# Altium schematic symbol library cube8.SchLib: 8 symbols
Pins are listed as number, name and electrical type; pins without a type are passive.

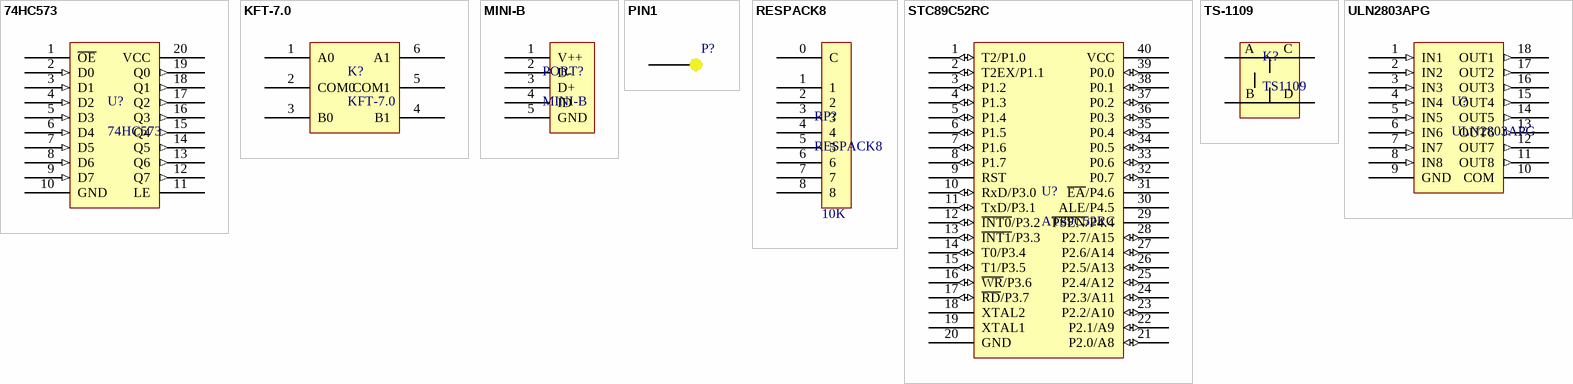
[diagram p0: symbols 74HC573 to ULN2803APG]

## 74HC573
designator U?
footprint DIP20
pins: 1 ~{OE}, 2 D0 (in), 3 D1 (in), 4 D2 (in), 5 D3 (in), 6 D4 (in), 7 D5 (in), 8 D6 (in), 9 D7 (in), 10 GND, 11 LE, 12 Q7 (out), 13 Q6 (out), 14 Q5 (out), 15 Q4 (out), 16 Q3 (out), 17 Q2 (out), 18 Q1 (out), 19 Q0 (out), 20 VCC (power)

## KFT-7.0
designator K?
footprint KFT-7.0
pins: 1 A0, 2 COM0, 3 B0, 4 B1, 5 COM1, 6 A1

## MINI-B
designator PORT?
footprint MINI-B
pins: 1 V++, 2 D-, 3 D+, 4 ID, 5 GND

## PIN1
designator P?, comment PIN  (value not drawn)
footprint PIN1
pins: 0 P

## RESPACK8
designator RP?  value 10K
footprint SIP9
pins: 0 C, 1, 2, 3, 4, 5, 6, 7, 8

## STC89C52RC
designator U?, comment AT89C52RC
footprint DIP40
pins: 1 T2/P1.0 (io), 2 T2EX/P1.1 (io), 3 P1.2 (io), 4 P1.3 (io), 5 P1.4 (io), 6 P1.5 (io), 7 P1.6 (io), 8 P1.7 (io), 9 RST, 10 RxD/P3.0 (io), 11 TxD/P3.1 (io), 12 ~{INT0}/P3.2 (io), 13 ~{INT1}/P3.3 (io), 14 T0/P3.4 (io), 15 T1/P3.5 (io), 16 ~{WR}/P3.6 (io), 17 ~{RD}/P3.7 (io), 18 XTAL2, 19 XTAL1, 20 GND, 21 P2.0/A8 (io), 22 P2.1/A9 (io), 23 P2.2/A10 (io), 24 P2.3/A11 (io), 25 P2.4/A12 (io), 26 P2.5/A13 (io), 27 P2.6/A14 (io), 28 P2.7/A15 (io), 29 ~{PSEN}/P4.4, 30 ALE/P4.5, 31 ~{EA}/P4.6, 32 P0.7 (io), 33 P0.6 (io), 34 P0.5 (io), 35 P0.4 (io), 36 P0.3 (io), 37 P0.2 (io), 38 P0.1 (io), 39 P0.0 (io), 40 VCC (power)

## TS-1109
designator K?, comment TS1109
footprint TS-1109
pins: A D, B D, C 12, D 11

## ULN2803APG
designator U?
footprint DIP18
pins: 1 IN1 (in), 2 IN2 (in), 3 IN3 (in), 4 IN4 (in), 5 IN5 (in), 6 IN6 (in), 7 IN7 (in), 8 IN8 (in), 9 GND, 10 COM, 11 OUT8 (out), 12 OUT7 (out), 13 OUT6 (out), 14 OUT5 (out), 15 OUT4 (out), 16 OUT3 (out), 17 OUT2 (out), 18 OUT1 (out)